# Altium footprint library PcbLib1.PcbLib: 5 footprints
Each footprint in its own frame and in the unit in brackets; x right, y up, seen from the top. Pads: shape width x height; smd on the part's side, far side on the other; paste and mask are expansions set on the pad; w line width, h text height; cw(c..) or ccw(c..) is an arc to the next point about the centre after c.
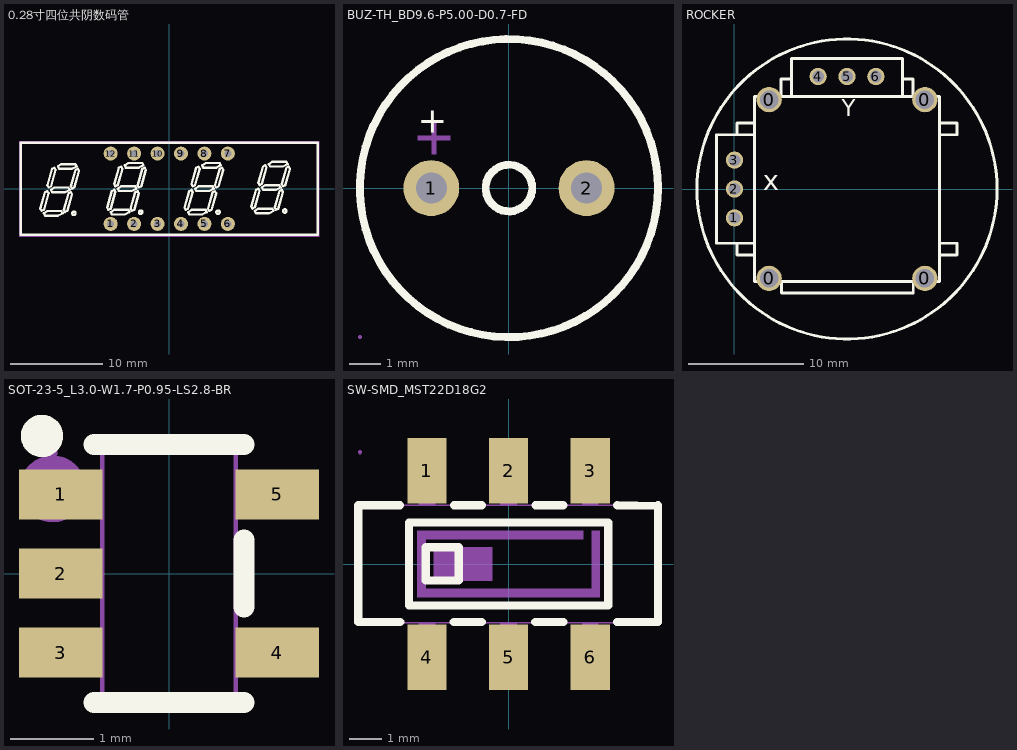
[diagram p0: the footprints below, top view; thin cyan lines are the x and y axes]

## 0.28寸四位共阴数码管 [mil]
pads (12):
  round 60 hole 30 mask+2: 1(-250,-150) 2(-150,-150) 3(-50,-150) 4(50,-150) 5(150,-150) 6(250,-150) 7(250,150) 8(150,150) 9(50,150) 10(-50,150) 11(-150,150) 12(-250,150)
Top Overlay:
  drawing of 196 lines, arcs and shapes, not listed
Mechanical 15:
  drawing of 17 lines, arcs and shapes, not listed

## BUZ-TH_BD9.6-P5.00-D0.7-FD [mm]
pads (2):
  round 1.8 hole 1 mask+0.051: 1(-2.5,0) 2(2.5,0)
Top Overlay:
  circle w0.254: c0,0 r0.75
  circle w0.254: c0,0 r4.8
  text "+" at -2.93,1.788 h0.83
Mechanical 6:
  region: -2.939,1.679 -2.939,1.539 -1.889,1.539 -1.889,1.679 -1.909,1.679
  region: -2.484,1.084 -2.344,1.084 -2.344,2.134 -2.484,2.134 -2.484,2.114
Mechanical 15:
  region: -4.74,-4.8 -4.74,-4.775 -4.775,-4.74 -4.825,-4.74 -4.86,-4.775 -4.86,-4.8 -4.86,-4.825 -4.825,-4.86 -4.775,-4.86 -4.74,-4.825 -4.74,-4.8
  region: 2.85,0 2.85,0.07 2.797,0.198 2.698,0.297 2.57,0.35 2.43,0.35 2.302,0.297 2.203,0.198 2.15,0.07 2.15,0 2.15,-0.07 2.203,-0.198 2.302,-0.297 2.43,-0.35 2.57,-0.35 2.698,-0.297 2.797,-0.198 2.85,-0.07 2.85,0
  region: -2.15,0 -2.15,0.07 -2.203,0.198 -2.302,0.297 -2.43,0.35 -2.57,0.35 -2.698,0.297 -2.797,0.198 -2.85,0.07 -2.85,0 -2.85,-0.07 -2.797,-0.198 -2.698,-0.297 -2.57,-0.35 -2.43,-0.35 -2.302,-0.297 -2.203,-0.198 -2.15,-0.07 -2.15,0
  lines w0.051: -4.8,0 cw(c0,0) 4.8,0 cw(c0,0) -4.8,0

## ROCKER [mm]
pads (10):
  round 2.2 hole 1.6: 0(3,-7.75) 0(3,7.75) 0(16.5,-7.75) 0(16.5,7.75)
  round 1.5 hole 1: 1(0,-2.5) 2(0,0) 3(0,2.5) 4(7.25,9.75) 5(9.75,9.75) 6(12.25,9.75)
Top Overlay:
  circle w0.254: c9.75,0 r13
  lines w0.254: 1.75,-5.715 0.225,-5.715 0.225,-4.699 ; 1.75,-4.699 0.225,-4.699 ; 1.75,4.699 0.225,4.699 ; 1.75,5.715 0.225,5.715 0.225,4.699 ; 4.035,8 4.035,9.525 4.95,9.525 ; 4.087,-8.053 4.061,-8.027 4.061,-9.017 15.491,-9.017 15.491,-8.028 ; 4.924,8.026 4.95,8 ; 4.95,9.144 4.95,8 ; 14.55,8 14.55,11.3 4.95,11.3 4.95,8 ; 14.55,9.525 15.465,9.525 15.465,8 ; 17.75,-5.715 19.275,-5.715 19.275,-4.699 17.75,-4.699 ; 17.75,4.699 19.275,4.699 19.275,5.715 17.75,5.715 ; -1.551,-2.425 -1.552,2.324 -1.553,4.699 0.225,4.699 ; -1.551,-2.425 -1.551,-2.425 ; -1.551,-2.425 -1.55,-4.699 0.225,-4.699 ; 1.75,-8 1.75,8 17.75,8 17.75,-8 1.75,-8
  text "x" at 3.883,-0.737 h3
  text "Y" at 10.512,5.842 h2.5
3D body "ROC16-.STEP": height 29.36, standoff -3.65, extent -2.68,-12.474 22.32,12.526

## SOT-23-5_L3.0-W1.7-P0.95-LS2.8-BR [mm]
pads (5):
  rect 1x0.6 smd mask+0.051: 1(-1.3,0.95) 2(-1.3,0) 3(-1.3,-0.95) 4(1.3,-0.95) 5(1.3,0.95)
Top Overlay:
  circle w0.254: c-1.524,1.651 r0.127
  lines w0.254: -0.9,-1.55 0.9,-1.55 ; -0.9,1.55 0.9,1.55 ; 0.9,-0.4 0.9,0.4
Mechanical 6:
  circle w0.4: c-1.397,1.016 r0.2
Mechanical 15:
  region: -1.46,1.45 -1.46,1.425 -1.425,1.39 -1.375,1.39 -1.34,1.425 -1.34,1.45 -1.34,1.475 -1.375,1.51 -1.425,1.51 -1.46,1.475
  region: -0.79,1.15 -0.79,0.75 -0.96,0.75 -0.96,1.15
  region: -0.95,1.15 -0.95,0.75 -1.4,0.75 -1.4,1.15
  region: -0.79,0.2 -0.79,-0.2 -0.96,-0.2 -0.96,0.2
  region: -0.95,0.2 -0.95,-0.2 -1.4,-0.2 -1.4,0.2
  region: -0.79,-0.75 -0.79,-1.15 -0.96,-1.15 -0.96,-0.75
  region: -0.95,-0.75 -0.95,-1.15 -1.4,-1.15 -1.4,-0.75
  region: 0.96,-0.75 0.96,-1.15 0.79,-1.15 0.79,-0.75
  region: 1.4,-0.75 1.4,-1.15 0.95,-1.15 0.95,-0.75
  region: 0.96,1.15 0.96,0.75 0.79,0.75 0.79,1.15
  region: 1.4,1.15 1.4,0.75 0.95,0.75 0.95,1.15
  lines w0.051: -0.8,-1.45 0.8,-1.45 0.8,1.45 -0.8,1.45 -0.8,-1.45

## SW-SMD_MST22D18G2 [mm]
pads (6):
  rect 1.2x2 smd mask+0.051: 1(-2.5,2.85) 2(0,2.85) 3(2.5,2.85) 4(-2.5,-2.85) 5(0,-2.85) 6(2.5,-2.85)
Top Overlay:
  lines w0.254: -3.326,1.8 -4.6,1.8 -4.6,-1.778 -3.319,-1.778 ; -1.681,-1.778 -0.819,-1.778 ; -1.674,1.8 -0.826,1.8 ; 0.819,-1.778 1.681,-1.778 ; 0.826,1.8 1.674,1.8 ; 3.319,-1.778 4.572,-1.778 4.572,1.8 ; 3.326,1.8 4.572,1.778 ; -3.048,-1.27 -3.048,1.27 3.048,1.27 3.048,-1.27 -3.048,-1.27 ; -2.54,-0.508 -2.54,0.508 -1.524,0.508 -1.524,-0.508 -2.54,-0.508
Mechanical 6:
  region: -2.54,1.016 -2.794,1.016 -2.794,-1.016 2.794,-1.016 2.794,1.016 2.54,1.016 2.54,-0.762 -2.54,-0.762 -2.54,0.762 2.286,0.762 2.286,1.016
  region: -2.286,0.508 -2.286,-0.508 -0.508,-0.508 -0.508,0.508
Mechanical 15:
  region: -4.49,3.425 -4.49,3.45 -4.525,3.485 -4.575,3.485 -4.61,3.45 -4.61,3.425 -4.61,3.4 -4.575,3.365 -4.525,3.365 -4.49,3.4
  region: -2.75,-2.635 -2.75,-1.79 -2.25,-1.79 -2.25,-2.635
  region: -2.75,-3.425 -2.75,-2.625 -2.25,-2.625 -2.25,-3.425
  region: 2.25,1.79 2.25,2.635 2.75,2.635 2.75,1.79
  region: 2.25,2.625 2.25,3.425 2.75,3.425 2.75,2.625
  region: -0.25,1.79 -0.25,2.635 0.25,2.635 0.25,1.79
  region: -0.25,2.625 -0.25,3.425 0.25,3.425 0.25,2.625
  region: -2.75,1.79 -2.75,2.635 -2.25,2.635 -2.25,1.79
  region: -2.75,2.625 -2.75,3.425 -2.25,3.425 -2.25,2.625
  region: 2.25,-2.635 2.25,-1.79 2.75,-1.79 2.75,-2.635
  region: 2.25,-3.425 2.25,-2.625 2.75,-2.625 2.75,-3.425
  region: -0.25,-2.635 -0.25,-1.79 0.25,-1.79 0.25,-2.635
  region: -0.25,-3.425 -0.25,-2.625 0.25,-2.625 0.25,-3.425
  lines w0.051: -4.55,-1.8 -4.55,1.8 4.55,1.8 4.55,-1.8 -4.55,-1.8